# Altium footprint library AHRL450.PcbLib: 1 footprints
Each footprint in its own frame and in the unit in brackets; x right, y up, seen from the top. Pads: shape width x height; smd on the part's side, far side on the other; paste and mask are expansions set on the pad; w line width, h text height; cw(c..) or ccw(c..) is an arc to the next point about the centre after c.
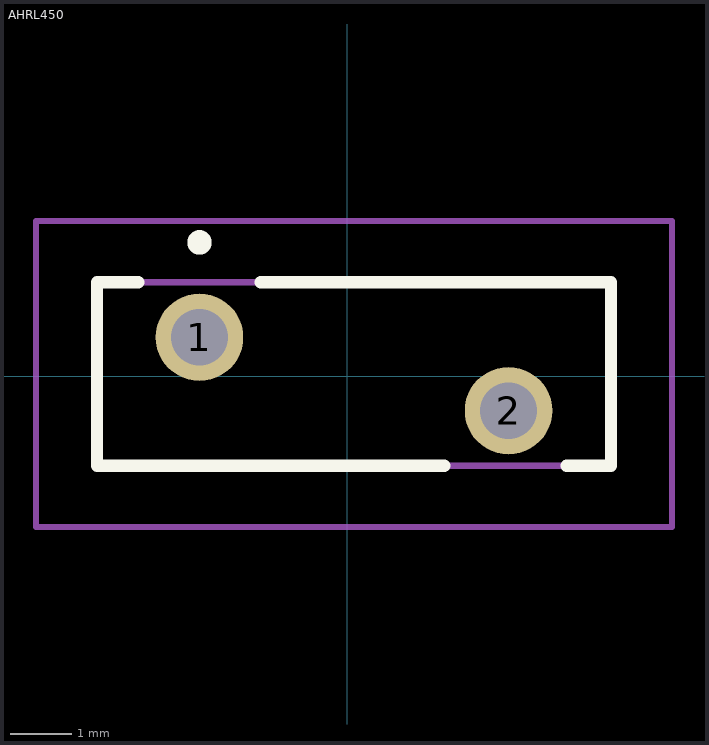
[diagram p0: the footprint, top view; thin cyan lines are the x and y axes]

## AHRL450 [mm]
pads (2):
  round 1.43 hole 0.93: 1(-2.413,0.635) 2(2.637,-0.565)
Top Overlay:
  lines w0.2: -4.088,-1.465 -4.088,1.535 ; -4.088,-1.465 -4.088,1.535 ; -4.088,-1.465 1.587,-1.465 -4.088,-1.465 ; -4.088,1.535 -3.413,1.535 -4.088,1.535 ; 4.312,-1.465 4.312,1.535 ; 4.312,-1.465 4.312,1.535 ; 4.312,-1.465 3.587,-1.465 4.312,-1.465 ; 4.312,1.535 -1.413,1.535 4.312,1.535
  lines w0.3: -2.413,2.135 cw(c-2.413,2.185) -2.413,2.235 ; -2.413,2.135 ccw(c-2.413,2.185) -2.413,2.235 ; -2.413,2.135 cw(c-2.413,2.185) -2.413,2.235
Top 3D Body:
  lines w0.1: -4.088,-1.465 -4.088,1.535 4.312,1.535 4.312,-1.465 -4.088,-1.465
Top Courtyard:
  lines w0.1: -5.088,-2.465 -5.088,2.535 5.312,2.535 5.312,-2.465 -5.088,-2.465
3D body "AHRL450.stp": height 14.2, standoff -5, extent -4.088,-1.465 4.312,1.535